# EAGLE library part MCP41100 (library work)
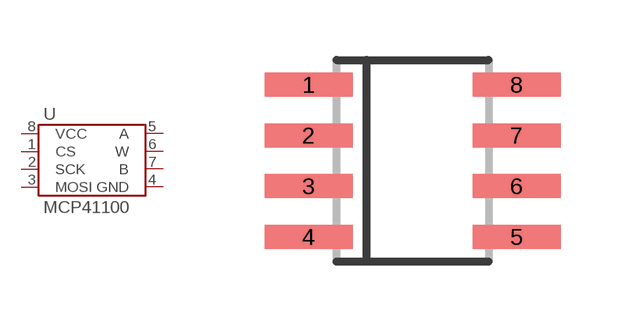
[diagram p99: symbol with the pads of SO8; footprint SO8]

Designator prefix U

## MCP41100  [SO8]
1  CS
2  SCK
3  MOSI
4  GND
5  A
6  W
7  B
8  VCC

## Footprint SO8 (pad centres in mm)
smd 2.2 x 0.6: 1 -2.6,1.905; 2 -2.6,0.635; 3 -2.6,-0.635; 4 -2.6,-1.905; 5 2.6,-1.905; 6 2.6,-0.635; 7 2.6,0.635; 8 2.6,1.905